# Altium footprint library BLE_breakout.PcbLib: 3 footprints
Each footprint in its own frame and in the unit in brackets; x right, y up, seen from the top. Pads: shape width x height; smd on the part's side, far side on the other; paste and mask are expansions set on the pad; w line width, h text height; cw(c..) or ccw(c..) is an arc to the next point about the centre after c.
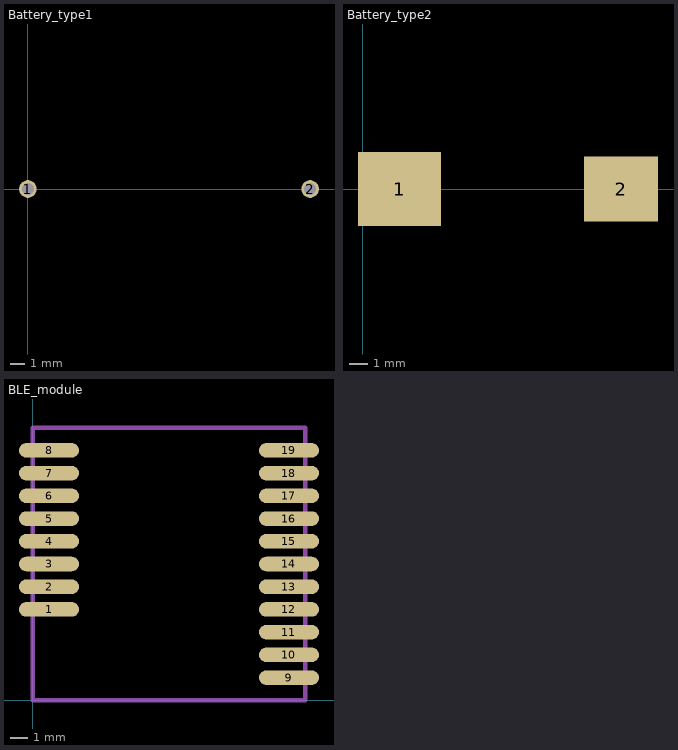
[diagram p0: the footprints below, top view; thin cyan lines are the x and y axes]

## Battery_type1 [mm] "20mm through-hole, 3V"
pads (2):
  round 1.25 hole 0.85: 1(0,0) 2(20,0)

## Battery_type2 [mm] "16mm surface mount, 3V"
pads (2):
  rect 4.5x4 smd: 1(2,0)
  rect 4x3.5 smd: 2(14,0)

## BLE_module [mil]
pads (19):
  rrect100% 132x32 smd: 1(36,200) 2(36,250) 3(36,300) 4(36,350) 5(36,400) 6(36,450) 7(36,500) 8(36,550) 9(564,50) 10(564,100) 11(564,150) 12(564,200) 13(564,250) 14(564,300) 15(564,350) 16(564,400) 17(564,450) 18(564,500) 19(564,550)
Mechanical 1:
  lines w10: 0,0 600,0 600,600 0,600 0,0